# EAGLE library part 7X2SMD (library smd_connect)
Harwin, 952-2566-ND Drawing: https://cdn.harwin.com/pdfs/M50-360.pdf
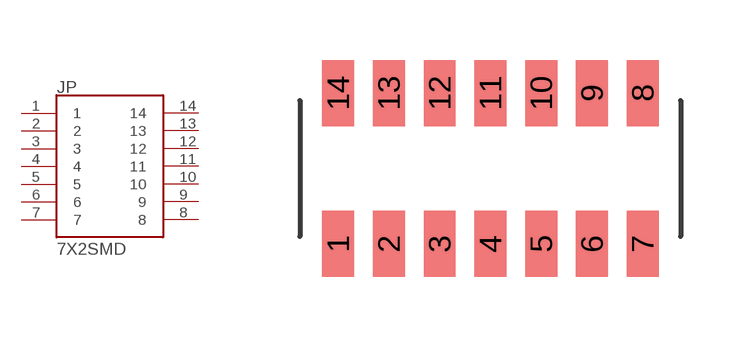
[diagram p1: symbol with the pads of 7X2_SMD; footprint 7X2_SMD]

Designator prefix JP

## 7X2SMD (DIGIKEY: 952-2566-ND)  [7X2_SMD]
1  1
2  2
3  3
4  4
5  5
6  6
7  7
8  8
9  9
10  10
11  11
12  12
13  13
14  14

## Footprint 7X2_SMD (pad centres in mm)
smd 0.8 x 1.65: 1 -3.175,-1.885; 2 -1.905,-1.885; 3 -0.635,-1.885; 4 0.635,-1.885; 5 1.905,-1.885; 6 3.175,-1.885; 7 4.445,-1.885; 8 4.445,1.885; 9 3.175,1.885; 10 1.905,1.885; 11 0.635,1.885; 12 -0.635,1.885; 13 -1.905,1.885; 14 -3.175,1.885